# Altium footprint library EEM_FMC_Carrier.PcbLib: 109 footprints (part 3 of 7)
Each footprint in its own frame and in the unit in brackets; x right, y up, seen from the top. Pads: shape width x height; smd on the part's side, far side on the other; paste and mask are expansions set on the pad; w line width, h text height; cw(c..) or ccw(c..) is an arc to the next point about the centre after c.
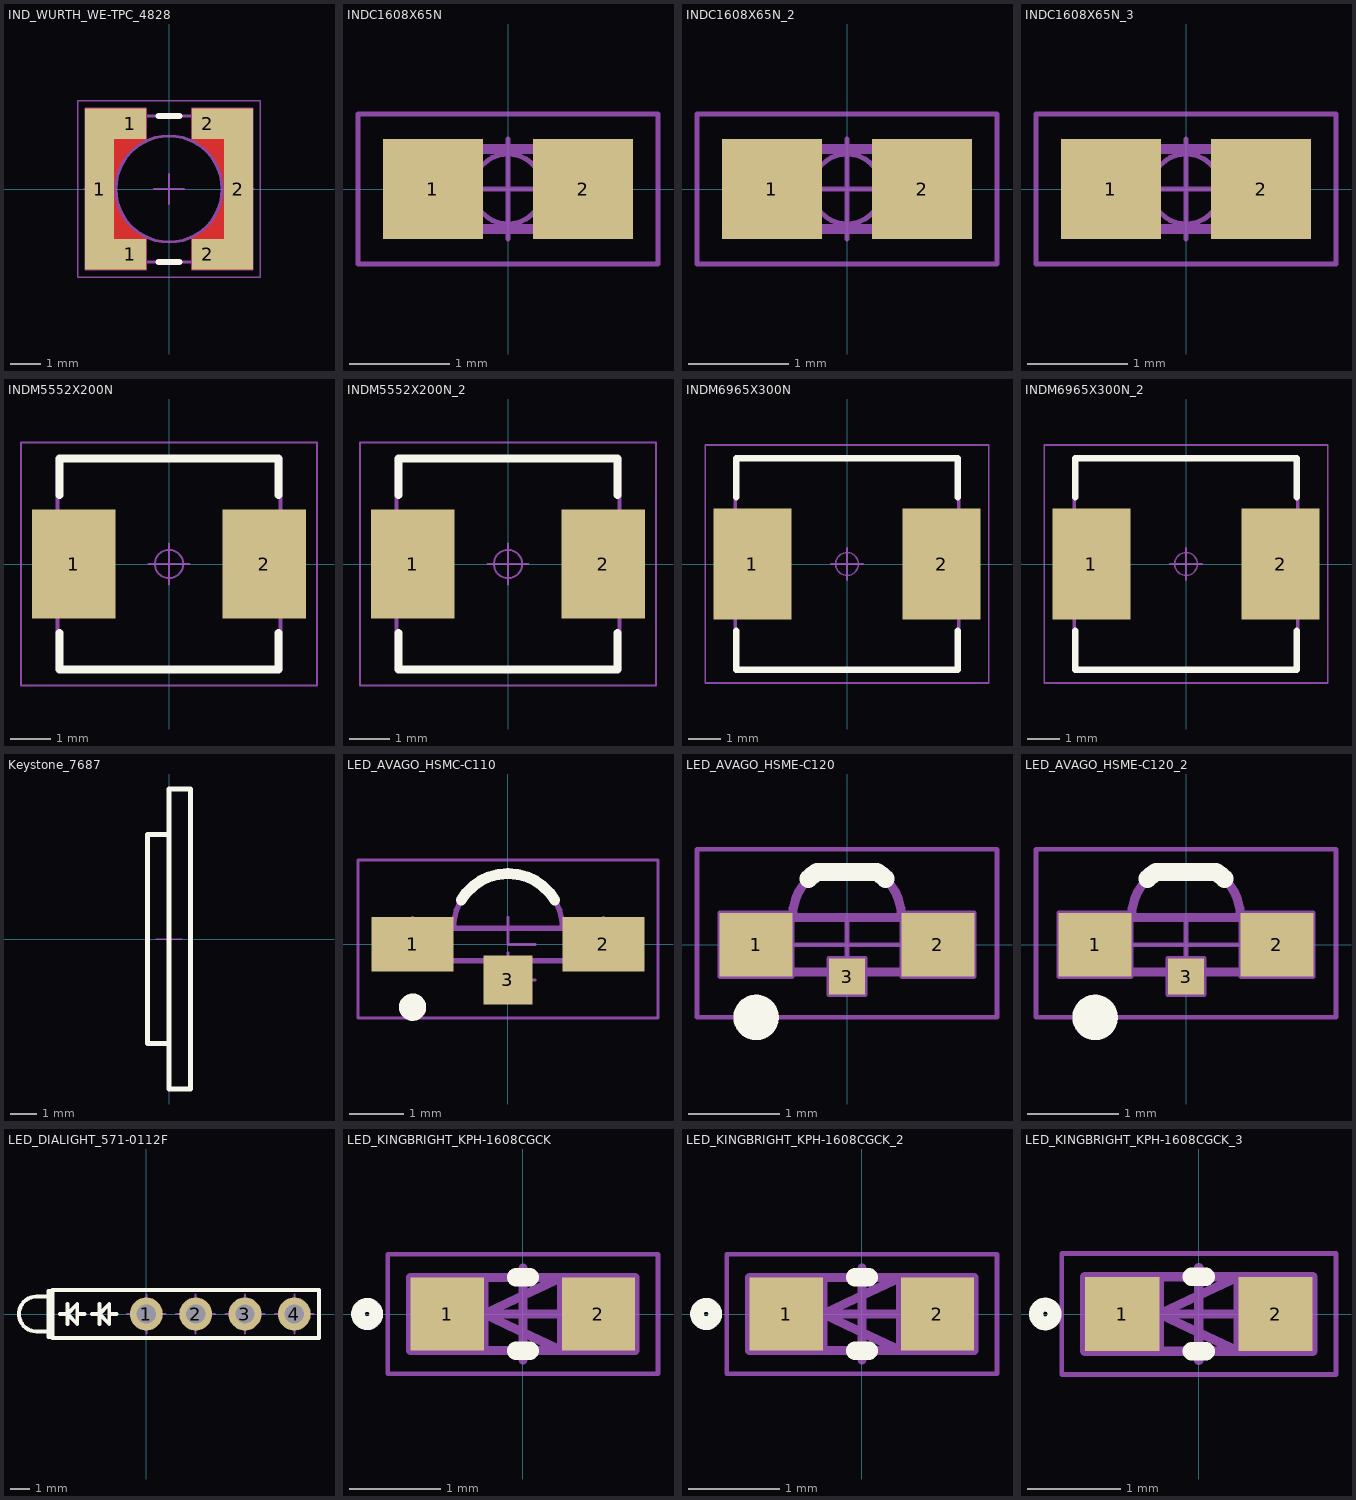
[diagram p2: the footprints below, top view; thin cyan lines are the x and y axes]

## IND_WURTH_WE-TPC_4828 [mm]
pads (6):
  rect 0.95x5.3 smd: 1(-2.275,0) 2(2.275,0)
  rect 1.05x1.014 smd: 1(-1.275,-2.143) 1(-1.275,2.143) 2(1.275,-2.143) 2(1.275,2.143)
Top Layer:
  region: 2.75,-2.65 0.75,-2.65 0.75,-1.636 0.902,-1.558 1.18,-1.359 1.416,-1.112 1.6,-0.824 1.727,-0.507 1.792,-0.171 1.792,0.171 1.727,0.507 1.6,0.824 1.416,1.112 1.18,1.359 0.902,1.558 0.75,1.636 0.75,2.65 2.75,2.65
  region: -2.75,-2.65 -0.75,-2.65 -0.75,-1.636 -0.902,-1.558 -1.18,-1.359 -1.416,-1.112 -1.6,-0.824 -1.727,-0.507 -1.792,-0.171 -1.792,0.171 -1.727,0.507 -1.6,0.824 -1.416,1.112 -1.18,1.359 -0.902,1.558 -0.75,1.636 -0.75,2.65 -2.75,2.65
  region: 0.75,-2.65 2.75,-2.65 2.75,2.65 0.75,2.65 0.75,1.636 0.902,1.558 1.18,1.359 1.416,1.112 1.6,0.824 1.727,0.507 1.792,0.171 1.792,-0.171 1.727,-0.507 1.6,-0.824 1.416,-1.112 1.18,-1.359 0.902,-1.558 0.75,-1.636
Top Overlay:
  lines w0.2: -0.35,-2.4 0.35,-2.4 ; -0.35,2.4 0.35,2.4
Mechanical 8:
  lines w0.05: -2.775,0 -2.275,0 ; -2.275,-0.5 -2.275,0 ; -2.275,0.5 -2.275,0 ; -1.8,-1.636 -0.75,-1.636 ; -1.8,1.636 -0.75,1.636 ; -1.775,-2.143 -1.275,-2.143 ; -1.775,0 -2.275,0 ; -1.775,2.143 -1.275,2.143 ; -1.275,-2.643 -1.275,-2.143 ; -1.275,-1.643 -1.275,-2.143 ; -1.275,1.643 -1.275,2.143 ; -1.275,2.643 -1.275,2.143 ; -0.775,-2.143 -1.275,-2.143 ; -0.775,2.143 -1.275,2.143 ; -0.5,0 0,0 ; 0,-0.5 0,0 ; 0,0.5 0,0 ; 0.5,0 0,0 ; 0.775,-2.143 1.275,-2.143 ; 0.775,2.143 1.275,2.143 ; 1.275,-2.643 1.275,-2.143 ; 1.275,-1.643 1.275,-2.143 ; 1.275,1.643 1.275,2.143 ; 1.275,2.643 1.275,2.143 ; 1.775,-2.143 1.275,-2.143 ; 1.775,0 2.275,0 ; 1.775,2.143 1.275,2.143 ; 1.8,-1.636 0.75,-1.636 ; 1.8,1.636 0.75,1.636 ; 2.275,-0.5 2.275,0 ; 2.275,0.5 2.275,0 ; 2.775,0 2.275,0 ; -0.75,-2.65 -2.75,-2.65 -2.75,2.65 -0.75,2.65 ; -0.75,-2.65 -0.75,-1.636 ; -0.75,-2.65 -0.75,-1.636 ; -0.75,-2.65 -1.8,-2.65 -1.8,2.65 -0.75,2.65 ; -0.75,-1.636 cw(c0,0) -0.75,1.636 ; -0.75,1.636 -0.75,2.65 ; 0.75,-2.65 2.75,-2.65 2.75,2.65 0.75,2.65 ; 0.75,-2.65 0.75,-1.636 ; 0.75,-2.65 0.75,-1.636 ; 0.75,-2.65 1.8,-2.65 1.8,2.65 0.75,2.65 ; 0.75,-1.636 ccw(c0,0) 0.75,1.636 ; 0.75,1.636 0.75,2.65
Mechanical 14:
  circle w0.1: c0,0 r1.744
  lines w0.1: -2.4,-2.4 -2.4,2.4 2.4,2.4 2.4,-2.4 -2.4,-2.4
Mechanical 15:
  lines w0.05: -3,-2.9 3,-2.9 3,2.9 -3,2.9 -3,-2.9
3D body "IND_WURTH_WE-TPC-4828.stp": height 2.8, standoff 0, extent -2.4,-2.4 2.4,2.4

## INDC1608X65N [mm]
pads (2):
  rect 1x1 smd: 1(-0.75,0) 2(0.75,0)
Mechanical 14:
  lines w0.1: -0.8,-0.4 -0.8,0.4 0.8,0.4 0.8,-0.4 -0.8,-0.4
Mechanical 15:
  circle w0.05: c0,0 r0.35
  lines w0.05: -0.5,0 0.5,0 ; 0,-0.5 0,0.5 ; -1.5,-0.75 -1.5,0.75 1.5,0.75 1.5,-0.75 -1.5,-0.75
3D body "INDC1608X65N.stp": height 0.65, standoff 0, extent -0.875,-0.475 0.875,0.475

## INDC1608X65N_2 [mm]
pads (2):
  rect 1x1 smd: 1(-0.75,0) 2(0.75,0)
Mechanical 14:
  lines w0.1: -0.8,-0.4 -0.8,0.4 0.8,0.4 0.8,-0.4 -0.8,-0.4
Mechanical 15:
  circle w0.05: c0,0 r0.35
  lines w0.05: -0.5,0 0.5,0 ; 0,-0.5 0,0.5 ; -1.5,-0.75 -1.5,0.75 1.5,0.75 1.5,-0.75 -1.5,-0.75
3D body "INDC1608X65N.stp": height 0.65, standoff 0, extent -0.875,-0.475 0.875,0.475

## INDC1608X65N_3 [mm]
pads (2):
  rect 1x1 smd: 1(-0.75,0) 2(0.75,0)
Mechanical 14:
  lines w0.1: -0.8,-0.4 -0.8,0.4 0.8,0.4 0.8,-0.4 -0.8,-0.4
Mechanical 15:
  circle w0.05: c0,0 r0.35
  lines w0.05: -0.5,0 0.5,0 ; 0,-0.5 0,0.5 ; -1.5,-0.75 -1.5,0.75 1.5,0.75 1.5,-0.75 -1.5,-0.75
3D body "INDC1608X65N.stp": height 0.65, standoff 0, extent -0.875,-0.475 0.875,0.475

## INDM5552X200N [mm]
pads (2):
  rect 2.05x2.7 smd: 1(-2.35,0) 2(2.35,0)
Top Overlay:
  lines w0.2: -2.7,-1.7 -2.7,-2.6 2.7,-2.6 2.7,-1.7 ; -2.7,1.7 -2.7,2.6 2.7,2.6 2.7,1.7
Mechanical 14:
  lines w0.1: -2.745,-2.59 2.745,-2.59 2.745,2.59 -2.745,2.59 -2.745,-2.59
Mechanical 15:
  circle w0.05: c0,0 r0.35
  lines w0.05: -0.5,0 0.5,0 ; 0,-0.5 0,0.5 ; -3.65,-3 3.65,-3 3.65,3 -3.65,3 -3.65,-3
3D body "INDM5552X200N.stp": height 2, standoff 0, extent -2.745,-2.59 2.745,2.59

## INDM5552X200N_2 [mm]
pads (2):
  rect 2.05x2.7 smd: 1(-2.35,0) 2(2.35,0)
Top Overlay:
  lines w0.2: -2.7,-1.7 -2.7,-2.6 2.7,-2.6 2.7,-1.7 ; -2.7,1.7 -2.7,2.6 2.7,2.6 2.7,1.7
Mechanical 14:
  lines w0.1: -2.745,-2.59 2.745,-2.59 2.745,2.59 -2.745,2.59 -2.745,-2.59
Mechanical 15:
  circle w0.05: c0,0 r0.35
  lines w0.05: -0.5,0 0.5,0 ; 0,-0.5 0,0.5 ; -3.65,-3 3.65,-3 3.65,3 -3.65,3 -3.65,-3
3D body "INDM5552X200N.stp": height 2, standoff 0, extent -2.745,-2.59 2.745,2.59

## INDM6965X300N [mm]
pads (2):
  rect 2.4x3.4 smd: 1(-2.9,0) 2(2.9,0)
Top Overlay:
  lines w0.2: -3.4,-2.05 -3.4,-3.25 3.4,-3.25 3.4,-2.05 ; -3.4,2.05 -3.4,3.25 3.4,3.25 3.4,2.05
Mechanical 14:
  lines w0.1: -3.43,-3.235 3.43,-3.235 3.43,3.235 -3.43,3.235 -3.43,-3.235
Mechanical 15:
  circle w0.05: c0,0 r0.35
  lines w0.05: -0.5,0 0.5,0 ; 0,-0.5 0,0.5 ; -4.35,-3.65 4.35,-3.65 4.35,3.65 -4.35,3.65 -4.35,-3.65
3D body "INDM_VISHAY_IHLP2525CZ.stp": height 3, standoff 0, extent -3.62,-3.36 3.62,3.36

## INDM6965X300N_2 [mm]
pads (2):
  rect 2.4x3.4 smd: 1(-2.9,0) 2(2.9,0)
Top Overlay:
  lines w0.2: -3.4,-2.05 -3.4,-3.25 3.4,-3.25 3.4,-2.05 ; -3.4,2.05 -3.4,3.25 3.4,3.25 3.4,2.05
Mechanical 14:
  lines w0.1: -3.43,-3.235 3.43,-3.235 3.43,3.235 -3.43,3.235 -3.43,-3.235
Mechanical 15:
  circle w0.05: c0,0 r0.35
  lines w0.05: -0.5,0 0.5,0 ; 0,-0.5 0,0.5 ; -4.35,-3.65 4.35,-3.65 4.35,3.65 -4.35,3.65 -4.35,-3.65
3D body "INDM_VISHAY_IHLP2525CZ.stp": height 3, standoff 0, extent -3.62,-3.36 3.62,3.36

## Keystone_7687 [mm]
Top Overlay:
  lines w0.2: 0,-3.9 -0.8,-3.9 -0.8,3.9 0,3.9 ; 0,-5.6 0.8,-5.6 0.8,5.6 0,5.6 0,-5.6
Mechanical 8:
  lines w0.05: -0.5,0 0,0 ; 0,-0.5 0,0 ; 0,0.5 0,0 ; 0.5,0 0,0
Mechanical 14:
  lines w0.1: 0,-3.9 -0.8,-3.9 -0.8,3.9 0,3.9 ; 0,-5.6 0.8,-5.6 0.8,5.6 0,5.6 0,-5.6

## LED_AVAGO_HSMC-C110 [mm]
pads (3):
  rect 1.5x1 smd: 1(-1.75,0) 2(1.75,0)
  rect 0.9x0.9 smd: 3(0,-0.65)
Top Overlay:
  circle w0.25: c-1.75,-1.15 r0.125
  lines w0.2: -0.857,0.814 cw(c0,0.3) 0.857,0.814
Mechanical 8:
  lines w0.05: -1.75,0.5 -1.75,0 -1.25,0 ; 0,-0.15 0,-0.65 0.5,-0.65 ; 0,0.5 0,0 0.5,0 ; 1.75,0.5 1.75,0 2.25,0
  text "K" at 1.483,0.25 h0.5
Mechanical 14:
  lines w0.1: -1,0.3 cw(c0,0.3) 1,0.3 ; -1.65,-0.3 1.65,-0.3 1.65,0.3 -1.65,0.3 -1.65,-0.3
Mechanical 15:
  lines w0.05: -2.75,-1.35 2.75,-1.35 2.75,1.55 -2.75,1.55 -2.75,-1.35
3D body "LED_AVAGO_HSMC-C110.stp": height 1, standoff 0, extent -1.65,-0.3 1.65,1.3

## LED_AVAGO_HSME-C120 [mm]
pads (3):
  rect 0.8x0.7 smd: 1(-1,0) 2(1,0)
  rect 0.4x0.4 smd: 3(0,-0.35)
Top Overlay:
  circle w0.25: c-1,-0.8 r0.125
  lines w0.2: -0.424,0.724 cw(c0,0.3) -0.332,0.8 0.332,0.8 cw(c0,0.3) 0.424,0.724
Mechanical 8:
  lines w0.05: -1,0 1,0 ; 0,-0.35 0,0 ; -1.4,-0.35 -1.4,0.35 -0.6,0.35 -0.6,-0.35 -1.4,-0.35 ; -0.2,-0.55 0.2,-0.55 0.2,-0.15 -0.2,-0.15 -0.2,-0.55 ; 0.6,-0.35 0.6,0.35 1.4,0.35 1.4,-0.35 0.6,-0.35
Mechanical 14:
  lines w0.1: -0.6,0.3 cw(c0,0.3) -0.332,0.8 0.332,0.8 cw(c0,0.3) 0.6,0.3 ; -0.85,-0.3 0.85,-0.3 0.85,0.3 -0.85,0.3 -0.85,-0.3
Mechanical 15:
  lines w0.05: -0.3,0 0.3,0 ; 0,-0.3 0,0.3 ; -1.65,-0.8 -1.65,1.05 1.65,1.05 1.65,-0.8 -1.65,-0.8
3D body "LED_AVAGO_HSME-C120.stp": height 0.7, standoff 0, extent -0.85,-0.3 0.85,0.8

## LED_AVAGO_HSME-C120_2 [mm]
pads (3):
  rect 0.8x0.7 smd: 1(-1,0) 2(1,0)
  rect 0.4x0.4 smd: 3(0,-0.35)
Top Overlay:
  circle w0.25: c-1,-0.8 r0.125
  lines w0.2: -0.424,0.724 cw(c0,0.3) -0.332,0.8 0.332,0.8 cw(c0,0.3) 0.424,0.724
Mechanical 8:
  lines w0.05: -1,0 1,0 ; 0,-0.35 0,0 ; -1.4,-0.35 -0.6,-0.35 -0.6,0.35 -1.4,0.35 -1.4,-0.35 ; -0.2,-0.55 -0.2,-0.15 0.2,-0.15 0.2,-0.55 -0.2,-0.55 ; 0.6,-0.35 1.4,-0.35 1.4,0.35 0.6,0.35 0.6,-0.35
Mechanical 14:
  lines w0.1: -0.6,0.3 cw(c0,0.3) -0.332,0.8 0.332,0.8 cw(c0,0.3) 0.6,0.3 ; -0.85,-0.3 -0.85,0.3 0.85,0.3 0.85,-0.3 -0.85,-0.3
Mechanical 15:
  lines w0.05: -0.3,0 0.3,0 ; 0,-0.3 0,0.3 ; -1.65,-0.8 1.65,-0.8 1.65,1.05 -1.65,1.05 -1.65,-0.8
3D body "LED_AVAGO_HSME-C120.stp": height 0.7, standoff 0, extent -0.85,-0.3 0.85,0.8

## LED_DIALIGHT_571-0112F [mm]
pads (4):
  round 1.7 hole 1: 1(0,0) 2(2.54,0) 3(5.08,0) 4(7.62,0)
Top Overlay:
  lines w0.2: -5.029,-0.902 -5.652,-0.902 cw(c-5.652,0) -5.652,0.902 -5.029,0.902 ; -4.826,-1.191 -5.029,-1.191 -5.029,1.196 -4.826,1.196 ; -4.445,0 -4.064,0 ; -4.064,-0.508 -4.064,0.508 ; -3.556,0 -3.175,0 ; -2.794,0 -2.413,0 ; -2.413,-0.508 -2.413,0.508 ; -1.905,0 -1.524,0 ; -4.064,0 -3.556,-0.508 -3.556,0.508 -4.064,0 ; -2.413,0 -1.905,-0.508 -1.905,0.508 -2.413,0 ; -4.826,-1.245 -4.826,1.245 8.89,1.245 8.89,-1.245 -4.826,-1.245
Mechanical 8:
  lines w0.1: -1,0 0,0 ; 0,-1 0,0 ; 0,1 0,0 ; 1,0 0,0 ; 1.54,0 2.54,0 ; 2.54,-1 2.54,0 ; 2.54,1 2.54,0 ; 3.54,0 2.54,0 ; 4.08,0 5.08,0 ; 5.08,-1 5.08,0 ; 5.08,1 5.08,0 ; 6.08,0 5.08,0 ; 6.62,0 7.62,0 ; 7.62,-1 7.62,0 ; 7.62,1 7.62,0 ; 8.62,0 7.62,0
Mechanical 14:
  lines w0.1: -5.029,-0.902 -5.652,-0.902 cw(c-5.652,0) -5.652,0.902 -5.029,0.902 ; -4.826,-1.191 -5.029,-1.191 -5.029,1.196 -4.826,1.196 ; -4.445,0 -4.064,0 ; -3.556,0 -3.175,0 ; -2.794,0 -2.413,0 ; -1.905,0 -1.524,0 ; -4.064,-0.508 -4.064,0.508 ; -4.064,-0.508 -4.064,0.508 ; -4.064,-0.508 -4.064,0.508 ; -4.064,0 -3.556,0.508 ; -4.064,0 -3.556,-0.508 ; -4.064,0 -3.556,-0.508 ; -4.064,0 -3.556,0.508 ; -4.064,0 -3.556,0.508 ; -4.064,0 -3.556,-0.508 ; -3.556,-0.508 -3.556,0.508 ; -3.556,-0.508 -3.556,0.508 ; -3.556,-0.508 -3.556,0.508 ; -2.413,-0.508 -2.413,0.508 ; -2.413,-0.508 -2.413,0.508 ; -2.413,-0.508 -2.413,0.508 ; -2.413,0 -1.905,0.508 ; -2.413,0 -1.905,-0.508 ; -2.413,0 -1.905,-0.508 ; -2.413,0 -1.905,0.508 ; -2.413,0 -1.905,0.508 ; -2.413,0 -1.905,-0.508 ; -1.905,-0.508 -1.905,0.508 ; -1.905,-0.508 -1.905,0.508 ; -1.905,-0.508 -1.905,0.508 ; -4.826,-1.245 -4.826,1.245 8.89,1.245 8.89,-1.245 -4.826,-1.245
3D body "LED_DIALIGHT_571-0112F.stp": height 8.61, standoff -3, extent -6.553,-1.244 8.89,1.245

## LED_KINGBRIGHT_KPH-1608CGCK [mm]
pads (2):
  rect 0.8x0.8 smd: 1(-0.825,0) 2(0.825,0)
Top Overlay:
  circle w0.15: c-1.7,0 r0.1
  lines w0.2: -0.075,-0.4 0.075,-0.4 ; -0.075,0.4 0.075,0.4
Mechanical 8:
  lines w0.1: -0.5,0 0,0 ; -0.425,0 0.425,0 ; 0,-0.5 0,0 ; 0,0.5 0,0 ; 0.5,0 0,0 ; -0.425,-0.4 -0.825,0 -0.425,0.4 ; -0.425,-0.4 -0.425,0.4 ; -0.425,-0.4 -1.225,-0.4 -1.225,0.4 -0.425,0.4 ; 1.225,-0.4 0.825,0 1.225,0.4 ; 1.225,-0.4 1.225,0.4 ; 1.225,-0.4 0.425,-0.4 0.425,0.4 1.225,0.4
Mechanical 14:
  lines w0.1: -0.8,-0.4 0.8,-0.4 0.8,0.4 -0.8,0.4 -0.8,-0.4 ; -0.425,0 0.425,-0.4 0.425,0.4 -0.425,0
Mechanical 15:
  lines w0.05: -1.475,-0.65 1.475,-0.65 1.475,0.65 -1.475,0.65 -1.475,-0.65
3D body "LED_KINGBRIGHT_KPH-1608CGCK_Part2.stp": height 0.65, standoff 0.12, extent -0.6,-0.4 0.6,0.4
3D body "LED_KINGBRIGHT_KPH-1608CGCK_Part1.stp": height 0.2, standoff 0, extent -0.8,-0.4 0.8,0.4

## LED_KINGBRIGHT_KPH-1608CGCK_2 [mm]
pads (2):
  rect 0.8x0.8 smd: 1(-0.825,0) 2(0.825,0)
Top Overlay:
  circle w0.15: c-1.7,0 r0.1
  lines w0.2: -0.075,-0.4 0.075,-0.4 ; -0.075,0.4 0.075,0.4
Mechanical 8:
  lines w0.1: -0.5,0 0,0 ; -0.425,0 0.425,0 ; 0,-0.5 0,0 ; 0,0.5 0,0 ; 0.5,0 0,0 ; -0.425,-0.4 -1.225,-0.4 -1.225,0.4 -0.425,0.4 ; -0.425,-0.4 -0.425,0.4 ; -0.425,-0.4 -0.825,0 -0.425,0.4 ; 1.225,-0.4 0.425,-0.4 0.425,0.4 1.225,0.4 ; 1.225,-0.4 1.225,0.4 ; 1.225,-0.4 0.825,0 1.225,0.4
Mechanical 14:
  lines w0.1: -0.8,-0.4 -0.8,0.4 0.8,0.4 0.8,-0.4 -0.8,-0.4 ; -0.425,0 0.425,0.4 0.425,-0.4 -0.425,0
Mechanical 15:
  lines w0.05: -1.475,-0.65 -1.475,0.65 1.475,0.65 1.475,-0.65 -1.475,-0.65
3D body "LED_KINGBRIGHT_KPH-1608CGCK_Part1.stp": height 0.2, standoff 0, extent -0.8,-0.4 0.8,0.4
3D body "LED_KINGBRIGHT_KPH-1608CGCK_Part2.stp": height 0.65, standoff 0.12, extent -0.6,-0.4 0.6,0.4

## LED_KINGBRIGHT_KPH-1608CGCK_3 [mm]
pads (2):
  rect 0.8x0.8 smd: 1(-0.825,0) 2(0.825,0)
Top Overlay:
  circle w0.15: c-1.65,0 r0.1
  lines w0.2: -0.075,-0.4 0.075,-0.4 ; -0.075,0.4 0.075,0.4
Mechanical 8:
  lines w0.1: -0.5,0 0,0 ; -0.425,0 0.425,0 ; 0,-0.5 0,0 ; 0,0.5 0,0 ; 0.5,0 0,0 ; -0.425,-0.4 -1.225,-0.4 -1.225,0.4 -0.425,0.4 ; -0.425,-0.4 -0.425,0.4 ; -0.425,-0.4 -0.825,0 -0.425,0.4 ; 1.225,-0.4 0.425,-0.4 0.425,0.4 1.225,0.4 ; 1.225,-0.4 1.225,0.4 ; 1.225,-0.4 0.825,0 1.225,0.4
Mechanical 14:
  lines w0.1: -0.8,-0.4 -0.8,0.4 0.8,0.4 0.8,-0.4 -0.8,-0.4 ; -0.425,0 0.425,0.4 0.425,-0.4 -0.425,0
Mechanical 15:
  lines w0.05: -1.475,-0.65 -1.475,0.65 1.475,0.65 1.475,-0.65 -1.475,-0.65
3D body "LED_KINGBRIGHT_KPH-1608CGCK_Part1.stp": height 0.2, standoff 0, extent -0.8,-0.4 0.8,0.4
3D body "LED_KINGBRIGHT_KPH-1608CGCK_Part2.stp": height 0.65, standoff 0.12, extent -0.6,-0.4 0.6,0.4